# Altium schematic symbol library SCH - DIODES - SCHOTTKY_DUAL_SERIES_SOT23.SCHLIB: 1 symbol
Pins are listed as number, name and electrical type; pins without a type are passive.

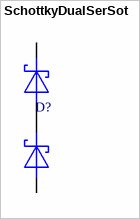
[diagram p0: symbol SchottkyDualSerSot]

## SchottkyDualSerSot
designator D?
Diode, Schottky, 0.1A, 30V
pins: 1 A, 2 C, 3 M